# Altium footprint library CSD16406Q3.PcbLib: 1 footprints
Each footprint in its own frame and in the unit in brackets; x right, y up, seen from the top. Pads: shape width x height; smd on the part's side, far side on the other; paste and mask are expansions set on the pad; w line width, h text height; cw(c..) or ccw(c..) is an arc to the next point about the centre after c.
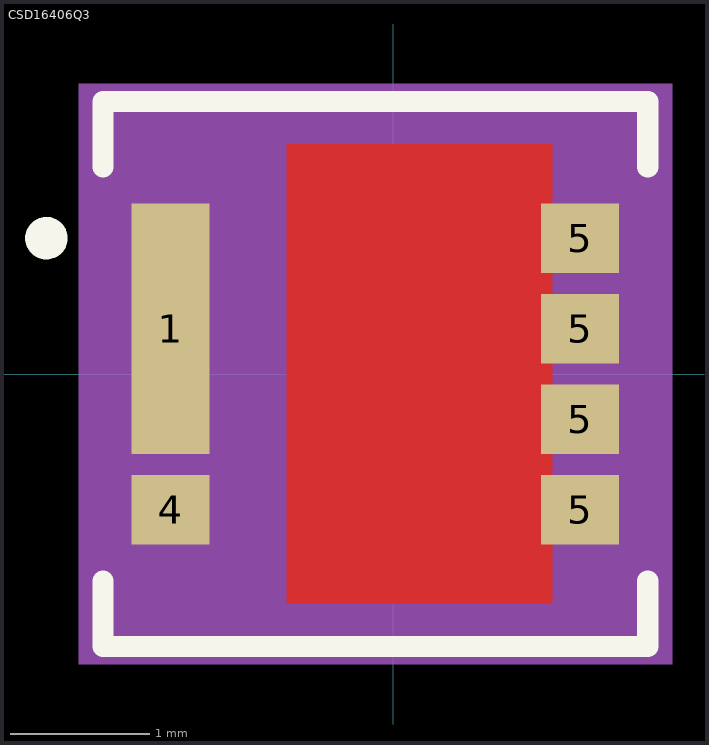
[diagram p0: the footprint, top view; thin cyan lines are the x and y axes]

## CSD16406Q3 [mm] "Power MOSFET"
height 1
pads (6):
  rect 0.56x1.8 smd paste-0.25: 1(-1.597,0.325)
  rect 0.56x0.5 smd paste-0.25: 4(-1.597,-0.975) 5(1.343,-0.975) 5(1.343,-0.325) 5(1.343,0.325) 5(1.343,0.975)
Top Layer:
  region: -0.762,1.651 1.143,1.651 1.143,-1.651 -0.762,-1.651 -0.762,1.27
Top Overlay:
  circle w0.152: c-2.489,0.975 r0.076
  lines w0.152: -2.083,-1.486 -2.083,-1.956 1.829,-1.956 1.829,-1.486 ; -2.083,1.486 -2.083,1.956 1.829,1.956 1.829,1.486
Top Paste:
  region: -1.342,1.2 -1.852,1.2 -1.852,0.75 -1.342,0.75
  region: -1.342,0.55 -1.852,0.55 -1.852,0.1 -1.342,0.1
  region: -1.342,-0.1 -1.852,-0.1 -1.852,-0.55 -1.342,-0.55
  region: -1.342,-0.75 -1.852,-0.75 -1.852,-1.2 -1.342,-1.2
  region: 1.598,-0.75 1.088,-0.75 1.088,-1.2 1.598,-1.2
  region: 1.598,-0.1 1.088,-0.1 1.088,-0.55 1.598,-0.55
  region: 1.598,0.55 1.088,0.55 1.088,0.1 1.598,0.1
  region: 1.598,1.2 1.088,1.2 1.088,0.75 1.598,0.75
  region: -0.635,-0.508 -0.635,0 -0.635,0.508 0.127,0.508 0.127,-0.508
  region: 0.254,-0.508 0.254,0.508 1.016,0.508 1.016,-0.508
  region: -0.635,-1.524 -0.635,-1.143 -0.635,-0.635 0.127,-0.635 0.127,-1.524
  region: -0.635,0.635 -0.635,1.397 -0.635,1.524 0.127,1.524 0.127,0.635
  region: 0.254,0.635 0.254,1.524 1.016,1.524 1.016,0.635
  region: 0.254,-1.524 0.254,-1.143 0.254,-0.635 1.016,-0.635 1.016,-1.524
Top Solder:
  region: -1.247,1.295 -1.947,1.295 -1.947,0.655 -1.247,0.655
  region: -1.247,0.645 -1.947,0.645 -1.947,0.005 -1.247,0.005
  region: -1.247,-0.005 -1.947,-0.005 -1.947,-0.645 -1.247,-0.645
  region: -1.247,-0.655 -1.947,-0.655 -1.947,-1.295 -1.247,-1.295
  region: 1.693,-0.655 0.993,-0.655 0.993,-1.295 1.693,-1.295
  region: 1.693,-0.005 0.993,-0.005 0.993,-0.645 1.693,-0.645
  region: 1.693,0.645 0.993,0.645 0.993,0.005 1.693,0.005
  region: 1.693,1.295 0.993,1.295 0.993,0.655 1.693,0.655
  region: -0.838,-1.702 -0.838,1.702 0.229,1.702 1.194,1.702 1.194,-1.702 0.559,-1.702
Mechanical 5:
  region: 2.004,-2.083 -2.258,-2.083 -2.258,2.083 2.004,2.083
Mechanical 13:
  circle w0: c-2.489,0.975 r0.076
  lines w0: -0.432,1.702 ccw(c-0.127,1.702) 0.178,1.702
  lines w0.025: -1.829,-1.702 1.575,-1.702 1.575,1.702 -1.829,1.702 -1.829,-1.702
Mechanical 15:
  region: 1.877,-1.956 -2.131,-1.956 -2.131,1.956 1.877,1.956
  lines w0.152: -2.131,-1.956 -2.131,1.956 1.877,1.956 1.877,-1.956 -2.131,-1.956
3D body: height 0.25, standoff 0, extent -0.127,0 0.127,0.254
3D body "DQG0008A.stp": height 1.1, standoff 0, extent -1.777,-1.65 1.523,1.65